# Altium footprint library Light Pipe.PcbLib: 5 footprints
Each footprint in its own frame and in the unit in brackets; x right, y up, seen from the top. Pads: shape width x height; smd on the part's side, far side on the other; paste and mask are expansions set on the pad; w line width, h text height; cw(c..) or ccw(c..) is an arc to the next point about the centre after c.
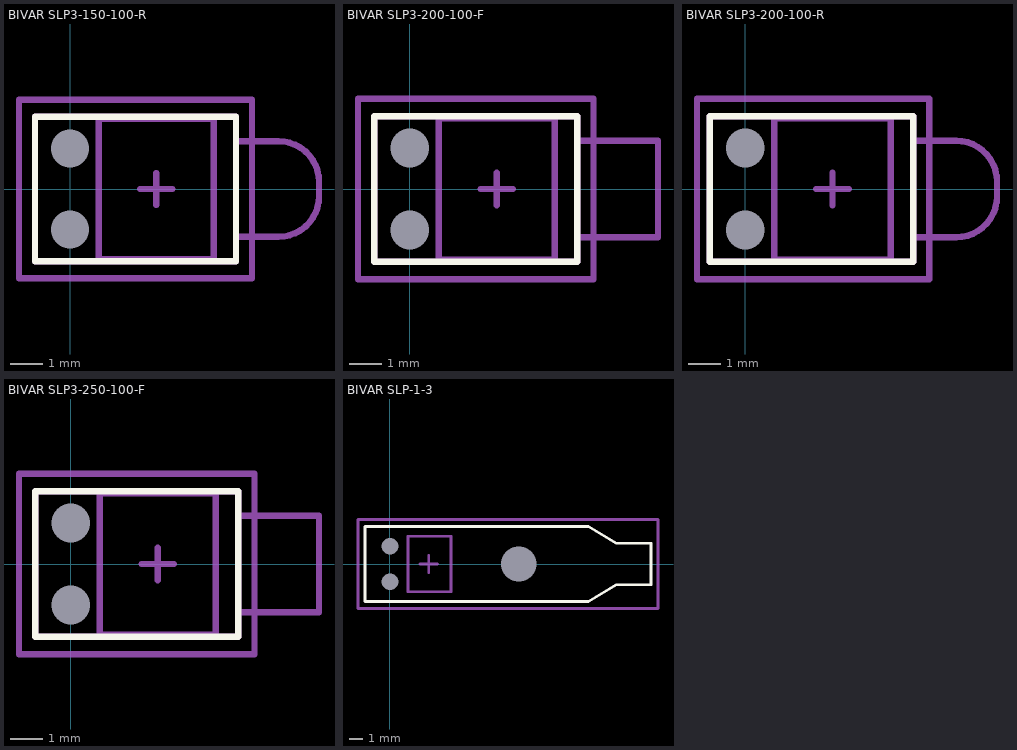
[diagram p0: the footprints below, top view; thin cyan lines are the x and y axes]

## BIVAR SLP3-150-100-R [mm]
height 5.3
pads (2):
  rect 0x0 hole 1.2 unplated: M(0,-1.27) M(0,1.27)
Top Overlay:
  lines w0.2: -1.1,-2.261 -1.1,2.261 5.2,2.261 5.2,-2.261 -1.1,-2.261
Mechanical 1:
  lines w0.2: 2.2,0 3.2,0 ; 2.7,-0.5 2.7,0.5 ; 5.2,-1.5 6.53,-1.5 ccw(c6.53,-0.23) 7.8,-0.23 7.8,0 7.8,0.23 ccw(c6.53,0.23) 6.53,1.5 5.2,1.5 ; -1.1,-2.261 5.2,-2.261 5.2,2.261 -1.1,2.261 -1.1,-2.261 ; 0.9,-2.2 4.5,-2.2 4.5,0 4.5,2.2 0.9,2.2 0.9,0 0.9,-2.2
Mechanical 15:
  lines w0.2: -1.6,-2.8 5.7,-2.8 5.7,2.8 -1.6,2.8 -1.6,-2.8
3D body "SLP3-150-100-R.STEP": height 5.31, standoff -1.6, extent -1.1,-2.261 7.79,2.261

## BIVAR SLP3-200-100-F [mm]
height 6.58
pads (2):
  rect 0x0 hole 1.2 unplated: M(0,-1.27) M(0,1.27)
Top Overlay:
  lines w0.2: -1.1,-2.261 -1.1,2.261 5.2,2.261 5.2,-2.261 -1.1,-2.261
Mechanical 1:
  lines w0.2: 2.2,0 3.2,0 ; 2.7,-0.5 2.7,0.5 ; 5.2,-1.5 7.7,-1.5 7.7,1.5 5.2,1.5 ; -1.1,-2.261 5.2,-2.261 5.2,2.261 -1.1,2.261 -1.1,-2.261 ; 0.9,-2.2 4.5,-2.2 4.5,0 4.5,2.2 0.9,2.2 0.9,0 0.9,-2.2
Mechanical 15:
  lines w0.2: -1.6,-2.8 5.7,-2.8 5.7,2.8 -1.6,2.8 -1.6,-2.8
3D body "SLP3-200-100-F.STEP": height 6.58, standoff -1.6, extent -1.145,-2.221 7.745,2.3

## BIVAR SLP3-200-100-R [mm] "Light Pipe"
height 6.58
pads (2):
  rect 0x0 hole 1.2 unplated: M(0,-1.27) M(0,1.27)
Top Overlay:
  lines w0.2: -1.1,-2.261 5.2,-2.261 5.2,2.261 -1.1,2.261 -1.1,-2.261
Mechanical 1:
  lines w0.2: 2.2,0 3.2,0 ; 2.7,-0.5 2.7,0.5 ; 5.2,-1.5 6.53,-1.5 ccw(c6.53,-0.23) 7.8,-0.23 7.8,0 7.8,0.23 ccw(c6.53,0.23) 6.53,1.5 5.2,1.5 ; -1.1,-2.261 -1.1,2.261 5.2,2.261 5.2,-2.261 -1.1,-2.261 ; 0.9,-2.2 0.9,0 0.9,2.2 4.5,2.2 4.5,0 4.5,-2.2 0.9,-2.2
Mechanical 15:
  lines w0.2: -1.5,-2.8 -1.5,2.8 5.7,2.8 5.7,-2.8 -1.5,-2.8
3D body "SLP3-200-100-R.STEP": height 6.58, standoff -1.6, extent -1.145,-2.221 7.745,2.3

## BIVAR SLP3-250-100-F [mm] "Light Pipe"
height 7.85
pads (2):
  rect 0x0 hole 1.2 unplated: M(0,-1.27) M(0,1.27)
Top Overlay:
  lines w0.2: -1.1,-2.261 -1.1,2.261 5.2,2.261 5.2,-2.261 -1.1,-2.261
Mechanical 1:
  lines w0.2: 2.2,0 3.2,0 ; 2.7,-0.5 2.7,0.5 ; 5.2,-1.5 7.7,-1.5 7.7,1.5 5.2,1.5 ; -1.1,-2.261 5.2,-2.261 5.2,2.261 -1.1,2.261 -1.1,-2.261 ; 0.9,-2.2 4.5,-2.2 4.5,0 4.5,2.2 0.9,2.2 0.9,0 0.9,-2.2
Mechanical 15:
  lines w0.2: -1.6,-2.8 5.7,-2.8 5.7,2.8 -1.6,2.8 -1.6,-2.8
3D body "SLP3-250-100-F.STEP": height 7.85, standoff -1.6, extent -1.145,-2.221 7.745,2.3

## BIVAR SLP-1-3 [mm]
height 6
pads (3):
  rect 0x0 hole 1.2 unplated: M(0,-1.27) M(0,1.27)
  rect 0x0 hole 2.54 unplated: M(9.271,0)
Top Overlay:
  lines w0.2: -1.8,-2.7 -1.8,0 -1.8,2.7 14.3,2.7 16.3,1.5 18.8,1.5 18.8,0 18.8,-1.5 16.3,-1.5 14.3,-2.7 -1.8,-2.7
Mechanical 1:
  lines w0.2: 2.159,0 3.429,0 ; 2.794,-0.635 2.794,0.635 ; 1.3,-2 4.4,-2 4.4,2 1.3,2 1.3,-2
Mechanical 15:
  lines w0.2: -2.3,-3.2 19.3,-3.2 19.3,3.2 -2.3,3.2 -2.3,-3.2
3D body "SLP-1-3.STEP": height 5.97, standoff -2.34, extent -1.778,-2.769 18.796,2.769